# EAGLE library part SN75176 (library Jordi)
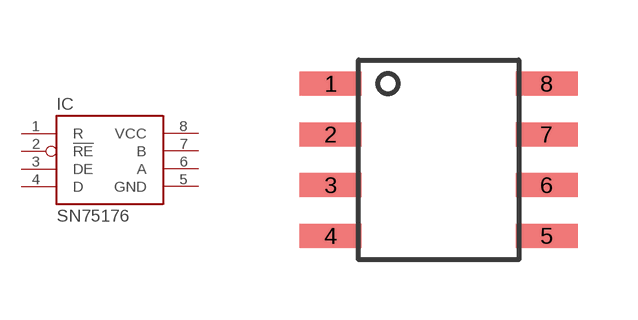
[diagram p25: symbol with the pads of SOIC-8; footprint SOIC-8]

Designator prefix IC

## SN75176SOIC  [SOIC-8]
1  R  out
2  !RE!  in
3  DE  in
4  D  in
5  GND  pwr
6  A
7  B
8  VCC  pwr

## Footprint SOIC-8 (pad centres in mm)
smd 1.55 x 0.6: 1 -2.7,1.905; 2 -2.7,0.635; 3 -2.7,-0.635; 4 -2.7,-1.905; 5 2.7,-1.905; 6 2.7,-0.635; 7 2.7,0.635; 8 2.7,1.905